# Altium integrated library Diodes - TVS.IntLib: 5379 symbols (part 32 of 122)
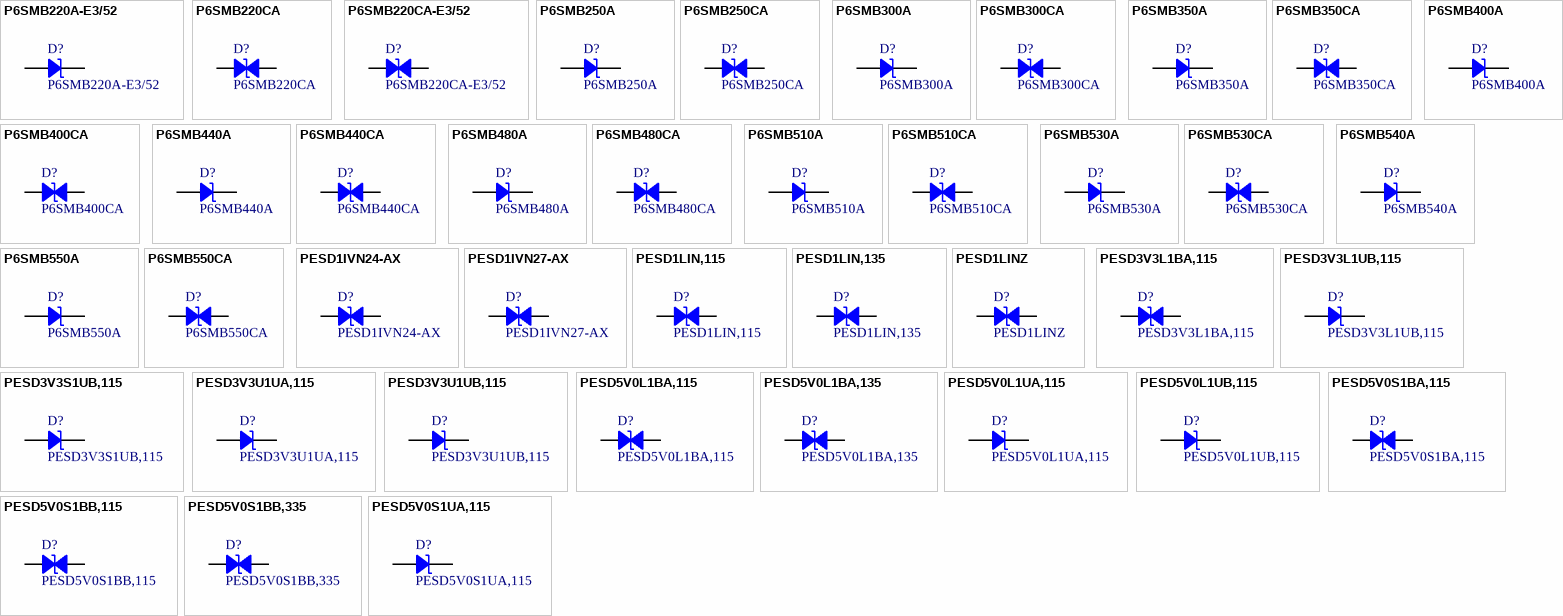
[diagram p165: symbols P6SMB220A-E3/52 to PESD5V0S1UA,115]

## P6SMB480CA
designator D?
TVS DIODE 408V 658V DO214AA; Manufacturer: Littelfuse Inc.; Bidirectional Channels: 1; Current - Peak Pulse (10/1000µs): 900mA; Power Line Protection: No; Power - Peak Pulse: 600W; Type: Zener; Voltage - Breakdown (Min): 456V; Part Number: P6SMB480CA; Applications: General Purpose; ComponentLink1Description: Datasheet; ComponentLink1URL: https://www.littelfuse.com/~/media/electronics/datasheets/tvs_diodes/littelfuse_tvs_diode_p6smb_datasheet.pdf.pdf; ComponentLink2Description: DigiKey Link; ComponentLink2URL: http://digikey.com/product-detail/en/littelfuse-inc/P6SMB480CA/P6SMB480CALFCT-ND/1766707; LastUpdated: 9/2/2020 1:28:16 AM; Lifecycle Status: Active; Minimum Order: 1; Mounting Type: Surface Mount; Operating Temperature: -55°C ~ 150°C (TJ); Package / Case: DO-214AA, SMB; Packaging: TapeAndReel; PartId: 8907; Part Status: Active; Price: 0.24; Series: P6SMB; Supplier 1: DigiKey; Supplier Part Number 1: P6SMB480CALFCT-ND; Supplier Device Package: DO-214AA (SMBJ); Voltage - Clamping (Max) @ Ipp: 658V; Voltage - Reverse Standoff (Typ): 408V
footprint DO214AA SMB
pins: 1, 2

## P6SMB510A
designator D?
TVS DIODE 434V 698V DO214AA; Manufacturer: Bourns Inc.; Current - Peak Pulse (10/1000µs): 900mA; Power Line Protection: No; Power - Peak Pulse: 600W; Type: Zener; Unidirectional Channels: 1; Voltage - Breakdown (Min): 485V; Part Number: P6SMB510A; Applications: General Purpose; ComponentLink1Description: Datasheet; ComponentLink1URL: https://www.bourns.com/docs/Product-Datasheets/P6SMB.pdf; ComponentLink2Description: DigiKey Link; ComponentLink2URL: http://digikey.com/product-detail/en/bourns-inc/P6SMB510A/P6SMB510ABBCT-ND/6708257; LastUpdated: 9/2/2020 1:19:43 AM; Lifecycle Status: Active; Minimum Order: 1; Mounting Type: Surface Mount; Operating Temperature: -55°C ~ 150°C (TJ); Package / Case: DO-214AA, SMB; Packaging: TapeAndReel; PartId: 10601; Part Status: Active; Price: 0.17; Series: -; Supplier 1: DigiKey; Supplier Part Number 1: P6SMB510ABBCT-ND; Supplier Device Package: DO-214AA (SMB); Voltage - Clamping (Max) @ Ipp: 698V; Voltage - Reverse Standoff (Typ): 434V
footprint DO214AA SMB
pins: 1, 2

## P6SMB510CA
designator D?
TVS DIODE 434V 698V DO214AA; Manufacturer: Littelfuse Inc.; Bidirectional Channels: 1; Current - Peak Pulse (10/1000µs): 900mA; Power Line Protection: No; Power - Peak Pulse: 600W; Type: Zener; Voltage - Breakdown (Min): 485V; Part Number: P6SMB510CA; Applications: General Purpose; ComponentLink1Description: Datasheet; ComponentLink1URL: https://www.littelfuse.com/~/media/electronics/datasheets/tvs_diodes/littelfuse_tvs_diode_p6smb_datasheet.pdf.pdf; ComponentLink2Description: DigiKey Link; ComponentLink2URL: http://digikey.com/product-detail/en/littelfuse-inc/P6SMB510CA/P6SMB510CALFCT-ND/1766709; LastUpdated: 9/2/2020 1:28:16 AM; Lifecycle Status: Active; Minimum Order: 1; Mounting Type: Surface Mount; Operating Temperature: -55°C ~ 150°C (TJ); Package / Case: DO-214AA, SMB; Packaging: TapeAndReel; PartId: 8908; Part Status: Active; Price: 0.24; Series: P6SMB; Supplier 1: DigiKey; Supplier Part Number 1: P6SMB510CALFCT-ND; Supplier Device Package: DO-214AA (SMBJ); Voltage - Clamping (Max) @ Ipp: 698V; Voltage - Reverse Standoff (Typ): 434V
footprint DO214AA SMB
pins: 1, 2

## P6SMB530A
designator D?
TVS DIODE 451V 725V DO214AA; Manufacturer: Littelfuse Inc.; Current - Peak Pulse (10/1000µs): 800mA; Power Line Protection: No; Power - Peak Pulse: 600W; Type: Zener; Unidirectional Channels: 1; Voltage - Breakdown (Min): 503.5V; Part Number: P6SMB530A; Applications: General Purpose; ComponentLink1Description: Datasheet; ComponentLink1URL: https://www.littelfuse.com/~/media/electronics/datasheets/tvs_diodes/littelfuse_tvs_diode_p6smb_datasheet.pdf.pdf; ComponentLink2Description: DigiKey Link; ComponentLink2URL: http://digikey.com/product-detail/en/littelfuse-inc/P6SMB530A/P6SMB530ALFCT-ND/2409318; LastUpdated: 9/2/2020 1:19:46 AM; Lifecycle Status: Active; Minimum Order: 1; Mounting Type: Surface Mount; Operating Temperature: -55°C ~ 150°C (TJ); Package / Case: DO-214AA, SMB; Packaging: TapeAndReel; PartId: 10846; Part Status: Active; Price: 0.23; Series: P6SMB; Supplier 1: DigiKey; Supplier Part Number 1: P6SMB530ALFCT-ND; Supplier Device Package: DO-214AA (SMBJ); Voltage - Clamping (Max) @ Ipp: 725V; Voltage - Reverse Standoff (Typ): 451V
footprint DO214AA SMB
pins: 1, 2

## P6SMB530CA
designator D?
TVS DIODE 451V 725V DO214AA; Manufacturer: Littelfuse Inc.; Bidirectional Channels: 1; Current - Peak Pulse (10/1000µs): 800mA; Power Line Protection: No; Power - Peak Pulse: 600W; Type: Zener; Voltage - Breakdown (Min): 503.5V; Part Number: P6SMB530CA; Applications: General Purpose; ComponentLink1Description: Datasheet; ComponentLink1URL: https://www.littelfuse.com/~/media/electronics/datasheets/tvs_diodes/littelfuse_tvs_diode_p6smb_datasheet.pdf.pdf; ComponentLink2Description: DigiKey Link; ComponentLink2URL: http://digikey.com/product-detail/en/littelfuse-inc/P6SMB530CA/P6SMB530CALFCT-ND/2409319; LastUpdated: 9/2/2020 1:28:16 AM; Lifecycle Status: Active; Minimum Order: 1; Mounting Type: Surface Mount; Operating Temperature: -55°C ~ 150°C (TJ); Package / Case: DO-214AA, SMB; Packaging: TapeAndReel; PartId: 8906; Part Status: Active; Price: 0.24; Series: P6SMB; Supplier 1: DigiKey; Supplier Part Number 1: P6SMB530CALFCT-ND; Supplier Device Package: DO-214AA (SMBJ); Voltage - Clamping (Max) @ Ipp: 725V; Voltage - Reverse Standoff (Typ): 451V
footprint DO214AA SMB
pins: 1, 2

## P6SMB540A
designator D?
TVS DIODE 460V 740V DO214AA; Manufacturer: Littelfuse Inc.; Current - Peak Pulse (10/1000µs): 800mA; Power Line Protection: No; Power - Peak Pulse: 600W; Type: Zener; Unidirectional Channels: 1; Voltage - Breakdown (Min): 513V; Part Number: P6SMB540A; Applications: General Purpose; ComponentLink1Description: Datasheet; ComponentLink1URL: https://www.littelfuse.com/~/media/electronics/datasheets/tvs_diodes/littelfuse_tvs_diode_p6smb_datasheet.pdf.pdf; ComponentLink2Description: DigiKey Link; ComponentLink2URL: http://digikey.com/product-detail/en/littelfuse-inc/P6SMB540A/P6SMB540ALFCT-ND/2409320; LastUpdated: 9/2/2020 1:19:45 AM; Lifecycle Status: Active; Minimum Order: 1; Mounting Type: Surface Mount; Operating Temperature: -55°C ~ 150°C (TJ); Package / Case: DO-214AA, SMB; Packaging: TapeAndReel; PartId: 10734; Part Status: Active; Price: 0.23; Series: P6SMB; Supplier 1: DigiKey; Supplier Part Number 1: P6SMB540ALFCT-ND; Supplier Device Package: DO-214AA (SMBJ); Voltage - Clamping (Max) @ Ipp: 740V; Voltage - Reverse Standoff (Typ): 460V
footprint DO214AA SMB
pins: 1, 2

## P6SMB550A
designator D?
TVS DIODE 495V 760V DO214AA; Manufacturer: Bourns Inc.; Current - Peak Pulse (10/1000µs): 800mA; Power Line Protection: No; Power - Peak Pulse: 600W; Type: Zener; Unidirectional Channels: 1; Voltage - Breakdown (Min): 522.5V; Part Number: P6SMB550A; Applications: General Purpose; ComponentLink1Description: Datasheet; ComponentLink1URL: https://www.bourns.com/docs/Product-Datasheets/P6SMB.pdf; ComponentLink2Description: DigiKey Link; ComponentLink2URL: http://digikey.com/product-detail/en/bourns-inc/P6SMB550A/P6SMB550ABBCT-ND/6181613; LastUpdated: 9/2/2020 1:19:43 AM; Lifecycle Status: Active; Minimum Order: 1; Mounting Type: Surface Mount; Operating Temperature: -55°C ~ 150°C (TJ); Package / Case: DO-214AA, SMB; Packaging: TapeAndReel; PartId: 10591; Part Status: Active; Price: 0.19; Series: -; Supplier 1: DigiKey; Supplier Part Number 1: P6SMB550ABBCT-ND; Supplier Device Package: DO-214AA (SMB); Voltage - Clamping (Max) @ Ipp: 760V; Voltage - Reverse Standoff (Typ): 495V
footprint DO214AA SMB
pins: 1, 2

## P6SMB550CA
designator D?
TVS DIODE 468V 760V DO214AA; Manufacturer: Littelfuse Inc.; Bidirectional Channels: 1; Current - Peak Pulse (10/1000µs): 800mA; Power Line Protection: No; Power - Peak Pulse: 600W; Type: Zener; Voltage - Breakdown (Min): 522.5V; Part Number: P6SMB550CA; Applications: General Purpose; ComponentLink1Description: Datasheet; ComponentLink1URL: https://www.littelfuse.com/~/media/electronics/datasheets/tvs_diodes/littelfuse_tvs_diode_p6smb_datasheet.pdf.pdf; ComponentLink2Description: DigiKey Link; ComponentLink2URL: http://digikey.com/product-detail/en/littelfuse-inc/P6SMB550CA/P6SMB550CALFCT-ND/1766713; LastUpdated: 9/2/2020 1:28:16 AM; Lifecycle Status: Active; Minimum Order: 1; Mounting Type: Surface Mount; Operating Temperature: -55°C ~ 150°C (TJ); Package / Case: DO-214AA, SMB; Packaging: TapeAndReel; PartId: 8909; Part Status: Active; Price: 0.24; Series: P6SMB; Supplier 1: DigiKey; Supplier Part Number 1: P6SMB550CALFCT-ND; Supplier Device Package: DO-214AA (SMBJ); Voltage - Clamping (Max) @ Ipp: 760V; Voltage - Reverse Standoff (Typ): 468V
footprint DO214AA SMB
pins: 1, 2

## PESD1IVN24-AX
designator D?
TVS DIODE 24V 42V; Manufacturer: Nexperia USA Inc.; Bidirectional Channels: 1; Capacitance @ Frequency: 14pF @ 1MHz; Current - Peak Pulse (10/1000µs): 3.5A (8/20µs); Power Line Protection: No; Type: Zener; Voltage - Breakdown (Min): 25.5V; Voltage - Reverse Standoff (Typ): 24V (Max); Part Number: PESD1IVN24-AX; Applications: Automotive, CAN; ComponentLink1Description: Datasheet; ComponentLink1URL: https://assets.nexperia.com/documents/data-sheet/PESD1IVN24-A.pdf; ComponentLink2Description: DigiKey Link; ComponentLink2URL: http://digikey.com/product-detail/en/nexperia-usa-inc/PESD1IVN24-AX/1727-7620-1-ND/8269079; LastUpdated: 9/2/2020 1:28:29 AM; Lifecycle Status: Active; Minimum Order: 1; Mounting Type: Surface Mount; Operating Temperature: -55°C ~ 150°C (TA); Package / Case: SC-76, SOD-323; Packaging: TapeAndReel; PartId: 9975; Part Status: Active; Price: 0.08; Series: Automotive, AEC-Q101; Supplier 1: DigiKey; Supplier Part Number 1: 1727-7620-1-ND; Supplier Device Package: SOD-323; Voltage - Clamping (Max) @ Ipp: 42V
footprint SOD323
pins: 1, 2

## PESD1IVN27-AX
designator D?
TVS DIODE 27V 45V SOD323; Manufacturer: Nexperia USA Inc.; Bidirectional Channels: 1; Capacitance @ Frequency: 14pF @ 1MHz; Current - Peak Pulse (10/1000µs): 3A (8/20µs); Power Line Protection: No; Type: Zener; Voltage - Breakdown (Min): 28V; Voltage - Reverse Standoff (Typ): 27V (Max); Part Number: PESD1IVN27-AX; Applications: Automotive, CAN; ComponentLink1Description: Datasheet; ComponentLink1URL: https://assets.nexperia.com/documents/data-sheet/PESD1IVN27-A.pdf; ComponentLink2Description: DigiKey Link; ComponentLink2URL: http://digikey.com/product-detail/en/nexperia-usa-inc/PESD1IVN27-AX/1727-7621-1-ND/8269080; LastUpdated: 9/2/2020 1:28:29 AM; Lifecycle Status: Active; Minimum Order: 1; Mounting Type: Surface Mount; Operating Temperature: -55°C ~ 150°C (TA); Package / Case: SC-76, SOD-323; Packaging: TapeAndReel; PartId: 9974; Part Status: Active; Price: 0.08; Series: Automotive, AEC-Q101; Supplier 1: DigiKey; Supplier Part Number 1: 1727-7621-1-ND; Supplier Device Package: SOD-323; Voltage - Clamping (Max) @ Ipp: 45V
footprint SOD323
pins: 1, 2

## PESD1LIN,115
designator D?
TVS DIODE 15V/24V 44V/70V SOD323; Manufacturer: Nexperia USA Inc.; Bidirectional Channels: 1; Capacitance @ Frequency: 13pF @ 1MHz; Current - Peak Pulse (10/1000µs): 3A (8/20µs); Power Line Protection: No; Power - Peak Pulse: 160W; Type: Zener; Voltage - Breakdown (Min): 17.1V; Voltage - Clamping (Max) @ Ipp: 44V, 70V; Voltage - Reverse Standoff (Typ): 15V (Max), 24V (Max); Part Number: PESD1LIN,115; Applications: Automotive; ComponentLink1Description: Datasheet; ComponentLink1URL: https://assets.nexperia.com/documents/data-sheet/PESD1LIN.pdf; ComponentLink2Description: DigiKey Link; ComponentLink2URL: http://digikey.com/product-detail/en/nexperia-usa-inc/PESD1LIN115/1727-3818-1-ND/1530823; LastUpdated: 9/2/2020 1:28:29 AM; Lifecycle Status: Active; Minimum Order: 1; Mounting Type: Surface Mount; Operating Temperature: -65°C ~ 150°C (TA); Package / Case: SC-76, SOD-323; Packaging: TapeAndReel; PartId: 9995; Part Status: Active; Price: 0.10; Series: Automotive, AEC-Q101; Supplier 1: DigiKey; Supplier Part Number 1: 1727-3818-1-ND; Supplier Device Package: SOD-323
footprint SOD323
pins: 1, 2

## PESD1LIN,135
designator D?
TVS DIODE 15V/24V 44V/70V SOD323; Manufacturer: Nexperia USA Inc.; Bidirectional Channels: 1; Capacitance @ Frequency: 13pF @ 1MHz; Current - Peak Pulse (10/1000µs): 3A (8/20µs); Power Line Protection: No; Power - Peak Pulse: 160W; Type: Zener; Voltage - Breakdown (Min): 17.1V; Voltage - Clamping (Max) @ Ipp: 44V, 70V; Voltage - Reverse Standoff (Typ): 15V (Max), 24V (Max); Part Number: PESD1LIN,135; Applications: Automotive; ComponentLink1Description: Datasheet; ComponentLink1URL: https://assets.nexperia.com/documents/data-sheet/PESD1LIN.pdf; ComponentLink2Description: DigiKey Link; ComponentLink2URL: http://digikey.com/product-detail/en/nexperia-usa-inc/PESD1LIN135/1727-1225-1-ND/4333340; LastUpdated: 9/2/2020 1:28:29 AM; Lifecycle Status: Active; Minimum Order: 1; Mounting Type: Surface Mount; Operating Temperature: -65°C ~ 150°C (TA); Package / Case: SC-76, SOD-323; Packaging: TapeAndReel; PartId: 9986; Part Status: Active; Price: 0.09; Series: Automotive, AEC-Q101; Supplier 1: DigiKey; Supplier Part Number 1: 1727-1225-1-ND; Supplier Device Package: SOD-323
footprint SOD323
pins: 1, 2

## PESD1LINZ
designator D?
TVS DIODE 15V/24V 44V/70V SOD323; Manufacturer: Nexperia USA Inc.; Bidirectional Channels: 1; Capacitance @ Frequency: 13pF @ 1MHz; Current - Peak Pulse (10/1000µs): 3A (8/20µs); Power Line Protection: No; Power - Peak Pulse: 160W; Type: Zener; Voltage - Breakdown (Min): 17.1V; Voltage - Clamping (Max) @ Ipp: 44V, 70V; Voltage - Reverse Standoff (Typ): 15V (Max), 24V (Max); Part Number: PESD1LINZ; Applications: Automotive; ComponentLink1Description: Datasheet; ComponentLink1URL: https://assets.nexperia.com/documents/data-sheet/PESD1LIN.pdf; ComponentLink2Description: DigiKey Link; ComponentLink2URL: http://digikey.com/product-detail/en/nexperia-usa-inc/PESD1LINZ/1727-8531-1-ND/10061268; LastUpdated: 9/2/2020 1:28:29 AM; Lifecycle Status: Active; Minimum Order: 1; Mounting Type: Surface Mount; Operating Temperature: 150°C (TJ); Package / Case: SC-76, SOD-323; Packaging: TapeAndReel; PartId: 9957; Part Status: Active; Price: 0.10; Series: Automotive, AEC-Q101; Supplier 1: DigiKey; Supplier Part Number 1: 1727-8531-1-ND; Supplier Device Package: SOD-323
footprint SOD323
pins: 1, 2

## PESD3V3L1BA,115
designator D?
TVS DIODE 3.3V 26V SOD323; Manufacturer: Nexperia USA Inc.; Bidirectional Channels: 1; Capacitance @ Frequency: 101pF @ 1MHz; Current - Peak Pulse (10/1000µs): 18A (8/20µs); Power Line Protection: No; Power - Peak Pulse: 500W; Type: Zener; Voltage - Breakdown (Min): 5.8V; Voltage - Reverse Standoff (Typ): 3.3V (Max); Part Number: PESD3V3L1BA,115; Applications: General Purpose; ComponentLink1Description: Datasheet; ComponentLink1URL: https://assets.nexperia.com/documents/data-sheet/PESDXL1BA_SER.pdf; ComponentLink2Description: DigiKey Link; ComponentLink2URL: http://digikey.com/product-detail/en/nexperia-usa-inc/PESD3V3L1BA115/1727-3825-1-ND/1530830; LastUpdated: 9/2/2020 1:28:29 AM; Lifecycle Status: Active; Minimum Order: 1; Mounting Type: Surface Mount; Operating Temperature: -65°C ~ 150°C (TA); Package / Case: SC-76, SOD-323; Packaging: TapeAndReel; PartId: 9994; Part Status: Active; Price: 0.11; Series: -; Supplier 1: DigiKey; Supplier Part Number 1: 1727-3825-1-ND; Supplier Device Package: SOD-323; Voltage - Clamping (Max) @ Ipp: 26V
footprint SOD323
pins: 1, 2

## PESD3V3L1UB,115
designator D?
TVS DIODE 3.3V 11V SOD523; Manufacturer: Nexperia USA Inc.; Capacitance @ Frequency: 34pF @ 1MHz; Current - Peak Pulse (10/1000µs): 4.5A (8/20µs); Power Line Protection: No; Power - Peak Pulse: 45W; Type: Zener; Unidirectional Channels: 1; Voltage - Breakdown (Min): 5.3V; Voltage - Reverse Standoff (Typ): 3.3V (Max); Part Number: PESD3V3L1UB,115; Applications: Automotive; ComponentLink1Description: Datasheet; ComponentLink1URL: https://assets.nexperia.com/documents/data-sheet/PESD3V3L1UA_UB_UL.pdf; ComponentLink2Description: DigiKey Link; ComponentLink2URL: http://digikey.com/product-detail/en/nexperia-usa-inc/PESD3V3L1UB115/1727-5418-1-ND/2676904; LastUpdated: 9/2/2020 1:28:24 AM; Lifecycle Status: Active; Minimum Order: 1; Mounting Type: Surface Mount; Operating Temperature: -55°C ~ 150°C (TA); Package / Case: SC-79, SOD-523; Packaging: TapeAndReel; PartId: 9794; Part Status: Active; Price: 0.09; Series: Automotive, AEC-Q101; Supplier 1: DigiKey; Supplier Part Number 1: 1727-5418-1-ND; Supplier Device Package: SOD-523; Voltage - Clamping (Max) @ Ipp: 11V
footprint SOD523F
pins: 1, 2

## PESD3V3S1UB,115
designator D?
TVS DIODE 3.3V 20V SOD523; Manufacturer: Nexperia USA Inc.; Capacitance @ Frequency: 207pF @ 1MHz; Current - Peak Pulse (10/1000µs): 18A (8/20µs); Power Line Protection: No; Power - Peak Pulse: 330W; Type: Zener; Unidirectional Channels: 1; Voltage - Breakdown (Min): 5.2V; Voltage - Reverse Standoff (Typ): 3.3V (Max); Part Number: PESD3V3S1UB,115; Applications: General Purpose; ComponentLink1Description: Datasheet; ComponentLink1URL: https://assets.nexperia.com/documents/data-sheet/PESDXS1UB_SERIES.pdf; ComponentLink2Description: DigiKey Link; ComponentLink2URL: http://digikey.com/product-detail/en/nexperia-usa-inc/PESD3V3S1UB115/1727-3829-1-ND/1530834; LastUpdated: 9/2/2020 1:28:24 AM; Lifecycle Status: Active; Minimum Order: 1; Mounting Type: Surface Mount; Operating Temperature: -65°C ~ 150°C (TA); Package / Case: SC-79, SOD-523; Packaging: TapeAndReel; PartId: 9768; Part Status: Active; Price: 0.09; Series: -; Supplier 1: DigiKey; Supplier Part Number 1: 1727-3829-1-ND; Supplier Device Package: SOD-523; Voltage - Clamping (Max) @ Ipp: 20V
footprint SOD523F
pins: 1, 2

## PESD3V3U1UA,115
designator D?
TVS DIODE 3.3V SOD323; Manufacturer: Nexperia USA Inc.; Capacitance @ Frequency: 2.6pF @ 1MHz; Power Line Protection: No; Type: Zener; Unidirectional Channels: 1; Voltage - Breakdown (Min): 4.5V; Voltage - Reverse Standoff (Typ): 3.3V (Max); Part Number: PESD3V3U1UA,115; Applications: Automotive; ComponentLink1Description: Datasheet; ComponentLink1URL: https://assets.nexperia.com/documents/data-sheet/PESD3V3U1UA_UB_UL.pdf; ComponentLink2Description: DigiKey Link; ComponentLink2URL: http://digikey.com/product-detail/en/nexperia-usa-inc/PESD3V3U1UA115/1727-4152-1-ND/1993004; LastUpdated: 9/2/2020 1:28:27 AM; Lifecycle Status: Active; Minimum Order: 1; Mounting Type: Surface Mount; Operating Temperature: -55°C ~ 150°C (TA); Package / Case: SC-76, SOD-323; Packaging: TapeAndReel; PartId: 9857; Part Status: Active; Price: 0.08; Series: Automotive, AEC-Q101; Supplier 1: DigiKey; Supplier Part Number 1: 1727-4152-1-ND; Supplier Device Package: SOD-323
footprint SOD323
pins: 1, 2

## PESD3V3U1UB,115
designator D?
TVS DIODE 3.3V SOD523; Manufacturer: Nexperia USA Inc.; Capacitance @ Frequency: 2.6pF @ 1MHz; Power Line Protection: No; Type: Zener; Unidirectional Channels: 1; Voltage - Breakdown (Min): 4.5V; Voltage - Reverse Standoff (Typ): 3.3V (Max); Part Number: PESD3V3U1UB,115; Applications: Automotive; ComponentLink1Description: Datasheet; ComponentLink1URL: https://assets.nexperia.com/documents/data-sheet/PESD3V3U1UA_UB_UL.pdf; ComponentLink2Description: DigiKey Link; ComponentLink2URL: http://digikey.com/product-detail/en/nexperia-usa-inc/PESD3V3U1UB115/1727-4153-1-ND/1993005; LastUpdated: 9/2/2020 1:28:24 AM; Lifecycle Status: Active; Minimum Order: 1; Mounting Type: Surface Mount; Operating Temperature: -55°C ~ 150°C (TA); Package / Case: SC-79, SOD-523; Packaging: TapeAndReel; PartId: 9773; Part Status: Active; Price: 0.08; Series: Automotive, AEC-Q101; Supplier 1: DigiKey; Supplier Part Number 1: 1727-4153-1-ND; Supplier Device Package: SOD-523
footprint SOD523F
pins: 1, 2

## PESD5V0L1BA,115
designator D?
TVS DIODE 5V 33V SOD323; Manufacturer: Nexperia USA Inc.; Bidirectional Channels: 1; Capacitance @ Frequency: 75pF @ 1MHz; Current - Peak Pulse (10/1000µs): 15A (8/20µs); Power Line Protection: No; Power - Peak Pulse: 500W; Type: Zener; Voltage - Breakdown (Min): 7V; Voltage - Reverse Standoff (Typ): 5V (Max); Part Number: PESD5V0L1BA,115; Applications: General Purpose; ComponentLink1Description: Datasheet; ComponentLink1URL: https://assets.nexperia.com/documents/data-sheet/PESDXL1BA_SER.pdf; ComponentLink2Description: DigiKey Link; ComponentLink2URL: http://digikey.com/product-detail/en/nexperia-usa-inc/PESD5V0L1BA115/1727-3833-1-ND/1530839; LastUpdated: 9/2/2020 1:28:29 AM; Lifecycle Status: Active; Minimum Order: 1; Mounting Type: Surface Mount; Operating Temperature: 150°C (TJ); Package / Case: SC-76, SOD-323; Packaging: TapeAndReel; PartId: 9992; Part Status: Active; Price: 0.11; Series: -; Supplier 1: DigiKey; Supplier Part Number 1: 1727-3833-1-ND; Supplier Device Package: SOD-323; Voltage - Clamping (Max) @ Ipp: 33V
footprint SOD323
pins: 1, 2

## PESD5V0L1BA,135
designator D?
TVS DIODE 5V 33V SOD323; Manufacturer: Nexperia USA Inc.; Bidirectional Channels: 1; Capacitance @ Frequency: 75pF @ 1MHz; Current - Peak Pulse (10/1000µs): 15A (8/20µs); Power Line Protection: No; Power - Peak Pulse: 500W; Type: Zener; Voltage - Breakdown (Min): 7V; Voltage - Reverse Standoff (Typ): 5V (Max); Part Number: PESD5V0L1BA,135; Applications: General Purpose; ComponentLink1Description: Datasheet; ComponentLink1URL: https://assets.nexperia.com/documents/data-sheet/PESDXL1BA_SER.pdf; ComponentLink2Description: DigiKey Link; ComponentLink2URL: http://digikey.com/product-detail/en/nexperia-usa-inc/PESD5V0L1BA135/1727-1226-1-ND/4333341; LastUpdated: 9/2/2020 1:28:29 AM; Lifecycle Status: Active; Minimum Order: 1; Mounting Type: Surface Mount; Operating Temperature: 150°C (TJ); Package / Case: SC-76, SOD-323; Packaging: TapeAndReel; PartId: 9927; Part Status: Active; Price: 0.09; Series: -; Supplier 1: DigiKey; Supplier Part Number 1: 1727-1226-1-ND; Supplier Device Package: SOD-323; Voltage - Clamping (Max) @ Ipp: 33V
footprint SOD323
pins: 1, 2

## PESD5V0L1UA,115
designator D?
TVS DIODE 5V 12V SOD323; Manufacturer: Nexperia USA Inc.; Capacitance @ Frequency: 25pF @ 1MHz; Current - Peak Pulse (10/1000µs): 3.5A (8/20µs); Power Line Protection: No; Power - Peak Pulse: 42W; Type: Zener; Unidirectional Channels: 1; Voltage - Breakdown (Min): 6.4V; Voltage - Reverse Standoff (Typ): 5V (Max); Part Number: PESD5V0L1UA,115; Applications: Automotive; ComponentLink1Description: Datasheet; ComponentLink1URL: https://assets.nexperia.com/documents/data-sheet/PESD5V0L1UA_UB_UL.pdf; ComponentLink2Description: DigiKey Link; ComponentLink2URL: http://digikey.com/product-detail/en/nexperia-usa-inc/PESD5V0L1UA115/1727-5380-1-ND/2676862; LastUpdated: 9/2/2020 1:28:27 AM; Lifecycle Status: Active; Minimum Order: 1; Mounting Type: Surface Mount; Operating Temperature: -55°C ~ 150°C (TA); Package / Case: SC-76, SOD-323; Packaging: TapeAndReel; PartId: 9882; Part Status: Active; Price: 0.06; Series: Automotive, AEC-Q101; Supplier 1: DigiKey; Supplier Part Number 1: 1727-5380-1-ND; Supplier Device Package: SOD-323; Voltage - Clamping (Max) @ Ipp: 12V
footprint SOD323
pins: 1, 2

## PESD5V0L1UB,115
designator D?
TVS DIODE 5V 12V SOD523; Manufacturer: Nexperia USA Inc.; Capacitance @ Frequency: 25pF @ 1MHz; Current - Peak Pulse (10/1000µs): 3.5A (8/20µs); Power Line Protection: No; Power - Peak Pulse: 42W; Type: Zener; Unidirectional Channels: 1; Voltage - Breakdown (Min): 6.4V; Voltage - Reverse Standoff (Typ): 5V (Max); Part Number: PESD5V0L1UB,115; Applications: Automotive; ComponentLink1Description: Datasheet; ComponentLink1URL: https://assets.nexperia.com/documents/data-sheet/PESD5V0L1UA_UB_UL.pdf; ComponentLink2Description: DigiKey Link; ComponentLink2URL: http://digikey.com/product-detail/en/nexperia-usa-inc/PESD5V0L1UB115/1727-4192-1-ND/2092311; LastUpdated: 9/2/2020 1:28:24 AM; Lifecycle Status: Active; Minimum Order: 1; Mounting Type: Surface Mount; Operating Temperature: -55°C ~ 150°C (TA); Package / Case: SC-79, SOD-523; Packaging: TapeAndReel; PartId: 9793; Part Status: Active; Price: 0.09; Series: Automotive, AEC-Q101; Supplier 1: DigiKey; Supplier Part Number 1: 1727-4192-1-ND; Supplier Device Package: SOD-523; Voltage - Clamping (Max) @ Ipp: 12V
footprint SOD523F
pins: 1, 2

## PESD5V0S1BA,115
designator D?
TVS DIODE 5V 14V SOD323; Manufacturer: Nexperia USA Inc.; Bidirectional Channels: 1; Capacitance @ Frequency: 35pF @ 1MHz; Current - Peak Pulse (10/1000µs): 12A (8/20µs); Power Line Protection: No; Power - Peak Pulse: 130W; Type: Zener; Voltage - Breakdown (Min): 5.5V; Voltage - Reverse Standoff (Typ): 5V (Max); Part Number: PESD5V0S1BA,115; Applications: General Purpose; ComponentLink1Description: Datasheet; ComponentLink1URL: https://assets.nexperia.com/documents/data-sheet/PESD5V0S1BA_BB_BL.pdf; ComponentLink2Description: DigiKey Link; ComponentLink2URL: http://digikey.com/product-detail/en/nexperia-usa-inc/PESD5V0S1BA115/1727-3837-1-ND/1530843; LastUpdated: 9/2/2020 1:28:29 AM; Lifecycle Status: Active; Minimum Order: 1; Mounting Type: Surface Mount; Operating Temperature: -65°C ~ 150°C (TA); Package / Case: SC-76, SOD-323; Packaging: TapeAndReel; PartId: 9996; Part Status: Active; Price: 0.10; Series: -; Supplier 1: DigiKey; Supplier Part Number 1: 1727-3837-1-ND; Supplier Device Package: SOD-323; Voltage - Clamping (Max) @ Ipp: 14V
footprint SOD323
pins: 1, 2

## PESD5V0S1BB,115
designator D?
TVS DIODE 5V 14V SOD523; Manufacturer: Nexperia USA Inc.; Bidirectional Channels: 1; Capacitance @ Frequency: 35pF @ 1MHz; Current - Peak Pulse (10/1000µs): 12A (8/20µs); Power Line Protection: No; Power - Peak Pulse: 130W; Type: Zener; Voltage - Breakdown (Min): 5.5V; Voltage - Reverse Standoff (Typ): 5V (Max); Part Number: PESD5V0S1BB,115; Applications: General Purpose; ComponentLink1Description: Datasheet; ComponentLink1URL: https://assets.nexperia.com/documents/data-sheet/PESD5V0S1BA_BB_BL.pdf; ComponentLink2Description: DigiKey Link; ComponentLink2URL: http://digikey.com/product-detail/en/nexperia-usa-inc/PESD5V0S1BB115/1727-3838-1-ND/1530844; LastUpdated: 9/2/2020 1:28:25 AM; Lifecycle Status: Active; Minimum Order: 1; Mounting Type: Surface Mount; Operating Temperature: -65°C ~ 150°C (TA); Package / Case: SC-79, SOD-523; Packaging: TapeAndReel; PartId: 9820; Part Status: Active; Price: 0.07; Series: -; Supplier 1: DigiKey; Supplier Part Number 1: 1727-3838-1-ND; Supplier Device Package: SOD-523; Voltage - Clamping (Max) @ Ipp: 14V
footprint SOD523F
pins: 1, 2

## PESD5V0S1BB,335
designator D?
TVS DIODE 5V 14V SOD523; Manufacturer: Nexperia USA Inc.; Bidirectional Channels: 1; Capacitance @ Frequency: 35pF @ 1MHz; Current - Peak Pulse (10/1000µs): 12A (8/20µs); Power Line Protection: No; Power - Peak Pulse: 130W; Type: Zener; Voltage - Breakdown (Min): 5.5V; Voltage - Reverse Standoff (Typ): 5V (Max); Part Number: PESD5V0S1BB,335; Applications: General Purpose; ComponentLink1Description: Datasheet; ComponentLink1URL: https://assets.nexperia.com/documents/data-sheet/PESD5V0S1BA_BB_BL.pdf; ComponentLink2Description: DigiKey Link; ComponentLink2URL: http://digikey.com/product-detail/en/nexperia-usa-inc/PESD5V0S1BB335/1727-5799-1-ND/2698191; LastUpdated: 9/2/2020 1:28:25 AM; Lifecycle Status: Active; Minimum Order: 1; Mounting Type: Surface Mount; Operating Temperature: -65°C ~ 150°C (TA); Package / Case: SC-79, SOD-523; Packaging: TapeAndReel; PartId: 9821; Part Status: Active; Price: 0.05; Series: -; Supplier 1: DigiKey; Supplier Part Number 1: 1727-5799-1-ND; Supplier Device Package: SOD-523; Voltage - Clamping (Max) @ Ipp: 14V
footprint SOD523F
pins: 1, 2

## PESD5V0S1UA,115
designator D?
TVS DIODE 5V 19V SOD323; Manufacturer: Nexperia USA Inc.; Capacitance @ Frequency: 480pF @ 1MHz; Current - Peak Pulse (10/1000µs): 47A (8/20µs); Power Line Protection: No; Power - Peak Pulse: 890W; Type: Zener; Unidirectional Channels: 1; Voltage - Breakdown (Min): 6.2V; Voltage - Reverse Standoff (Typ): 5V (Max); Part Number: PESD5V0S1UA,115; Applications: Automotive; ComponentLink1Description: Datasheet; ComponentLink1URL: https://assets.nexperia.com/documents/data-sheet/PESD5V0S1UA_PESD12VS1UA.pdf; ComponentLink2Description: DigiKey Link; ComponentLink2URL: http://digikey.com/product-detail/en/nexperia-usa-inc/PESD5V0S1UA115/1727-5801-1-ND/2697465; LastUpdated: 9/2/2020 1:28:27 AM; Lifecycle Status: Active; Minimum Order: 1; Mounting Type: Surface Mount; Operating Temperature: -55°C ~ 150°C (TA); Package / Case: SC-76, SOD-323; Packaging: TapeAndReel; PartId: 9878; Part Status: Active; Price: 0.08; Series: Automotive, AEC-Q101; Supplier 1: DigiKey; Supplier Part Number 1: 1727-5801-1-ND; Supplier Device Package: SOD-323; Voltage - Clamping (Max) @ Ipp: 19V
footprint SOD323
pins: 1, 2

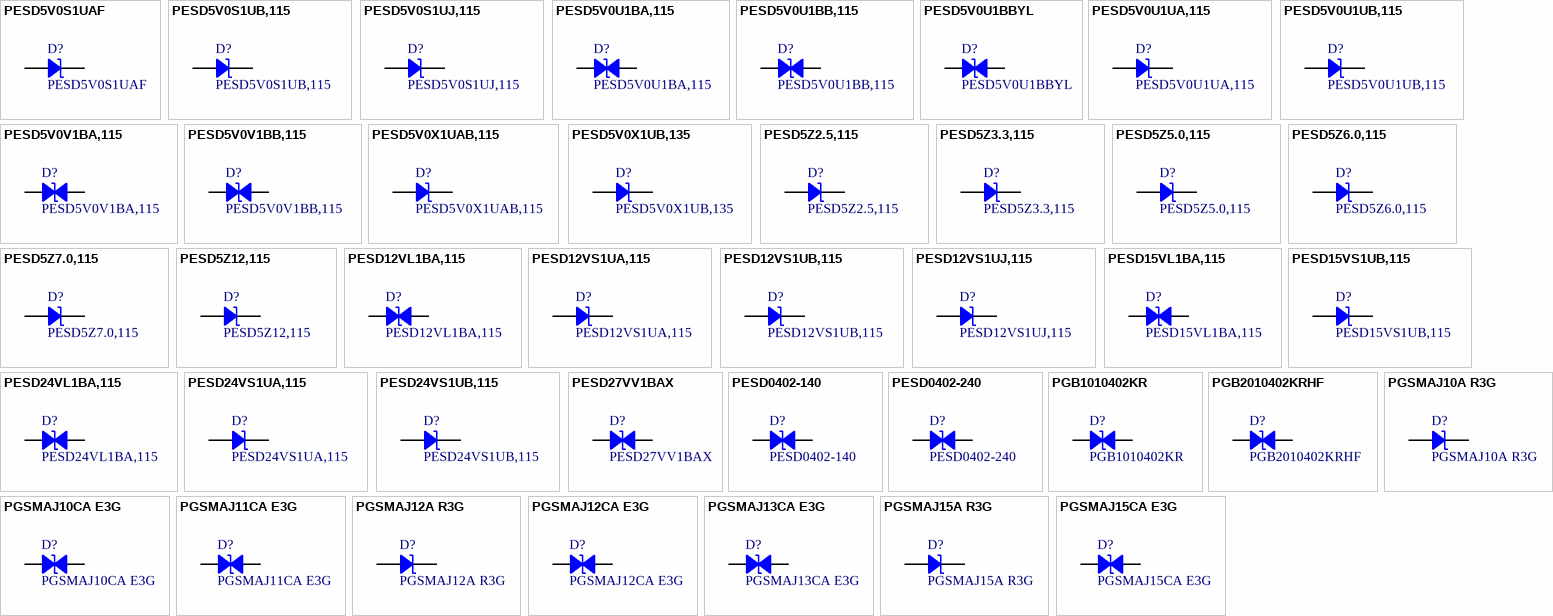
[diagram p35: symbols PESD5V0S1UAF to PGSMAJ15CA E3G]

## PESD5V0S1UAF
designator D?
TVS DIODE 5V 19V SOD323; Manufacturer: Nexperia USA Inc.; Capacitance @ Frequency: 480pF @ 1MHz; Current - Peak Pulse (10/1000µs): 47A (8/20µs); Power Line Protection: No; Power - Peak Pulse: 890W; Type: Zener; Unidirectional Channels: 1; Voltage - Breakdown (Min): 6.2V; Voltage - Reverse Standoff (Typ): 5V (Max); Part Number: PESD5V0S1UAF; Applications: Automotive; ComponentLink1Description: Datasheet; ComponentLink1URL: https://assets.nexperia.com/documents/data-sheet/PESD5V0S1UA_PESD12VS1UA.pdf; ComponentLink2Description: DigiKey Link; ComponentLink2URL: http://digikey.com/product-detail/en/nexperia-usa-inc/PESD5V0S1UAF/1727-2750-1-ND/6576215; LastUpdated: 9/2/2020 1:28:27 AM; Lifecycle Status: Active; Minimum Order: 1; Mounting Type: Surface Mount; Operating Temperature: -55°C ~ 150°C (TA); Package / Case: SC-76, SOD-323; Packaging: TapeAndReel; PartId: 9871; Part Status: Active; Price: 0.06; Series: Automotive, AEC-Q101; Supplier 1: DigiKey; Supplier Part Number 1: 1727-2750-1-ND; Supplier Device Package: SOD-323; Voltage - Clamping (Max) @ Ipp: 19V
footprint SOD323
pins: 1, 2

## PESD5V0S1UB,115
designator D?
TVS DIODE 5V 20V SOD523; Manufacturer: Nexperia USA Inc.; Capacitance @ Frequency: 152pF @ 1MHz; Current - Peak Pulse (10/1000µs): 15A (8/20µs); Power Line Protection: No; Power - Peak Pulse: 260W; Type: Zener; Unidirectional Channels: 1; Voltage - Breakdown (Min): 6.4V; Voltage - Reverse Standoff (Typ): 5V (Max); Part Number: PESD5V0S1UB,115; Applications: General Purpose; ComponentLink1Description: Datasheet; ComponentLink1URL: https://assets.nexperia.com/documents/data-sheet/PESDXS1UB_SERIES.pdf; ComponentLink2Description: DigiKey Link; ComponentLink2URL: http://digikey.com/product-detail/en/nexperia-usa-inc/PESD5V0S1UB115/1727-3839-1-ND/1530845; LastUpdated: 9/2/2020 1:28:24 AM; Lifecycle Status: Active; Minimum Order: 1; Mounting Type: Surface Mount; Operating Temperature: -65°C ~ 150°C (TA); Package / Case: SC-79, SOD-523; Packaging: TapeAndReel; PartId: 9746; Part Status: Active; Price: 0.09; Series: -; Supplier 1: DigiKey; Supplier Part Number 1: 1727-3839-1-ND; Supplier Device Package: SOD-523; Voltage - Clamping (Max) @ Ipp: 20V
footprint SOD523F
pins: 1, 2

## PESD5V0S1UJ,115
designator D?
TVS DIODE 5V 19V SOD323F; Manufacturer: Nexperia USA Inc.; Capacitance @ Frequency: 480pF @ 1MHz; Current - Peak Pulse (10/1000µs): 47A (8/20µs); Power Line Protection: No; Power - Peak Pulse: 890W; Type: Zener; Unidirectional Channels: 1; Voltage - Breakdown (Min): 6.2V; Voltage - Reverse Standoff (Typ): 5V (Max); Part Number: PESD5V0S1UJ,115; Applications: Automotive; ComponentLink1Description: Datasheet; ComponentLink1URL: https://assets.nexperia.com/documents/data-sheet/PESD5V0S1UJ_PESD12VS1UJ.pdf; ComponentLink2Description: DigiKey Link; ComponentLink2URL: http://digikey.com/product-detail/en/nexperia-usa-inc/PESD5V0S1UJ115/1727-5802-1-ND/2697512; LastUpdated: 9/2/2020 1:28:42 AM; Lifecycle Status: Active; Minimum Order: 1; Mounting Type: Surface Mount; Operating Temperature: -55°C ~ 150°C (TA); Package / Case: SC-90, SOD-323F; Packaging: TapeAndReel; PartId: 10357; Part Status: Active; Price: 0.08; Series: Automotive, AEC-Q101; Supplier 1: DigiKey; Supplier Part Number 1: 1727-5802-1-ND; Supplier Device Package: SOD-323F; Voltage - Clamping (Max) @ Ipp: 19V
footprint SOD323F
pins: 1, 2

## PESD5V0U1BA,115
designator D?
TVS DIODE 5V SOD323; Manufacturer: Nexperia USA Inc.; Bidirectional Channels: 1; Capacitance @ Frequency: 2.9pF @ 1MHz; Power Line Protection: No; Type: Zener; Voltage - Breakdown (Min): 5.5V; Voltage - Reverse Standoff (Typ): 5V (Max); Part Number: PESD5V0U1BA,115; Applications: General Purpose; ComponentLink1Description: Datasheet; ComponentLink1URL: https://assets.nexperia.com/documents/data-sheet/PESD5V0U1BA_BB_BL.pdf; ComponentLink2Description: DigiKey Link; ComponentLink2URL: http://digikey.com/product-detail/en/nexperia-usa-inc/PESD5V0U1BA115/1727-3934-1-ND/1692988; LastUpdated: 9/2/2020 1:28:29 AM; Lifecycle Status: Active; Minimum Order: 1; Mounting Type: Surface Mount; Operating Temperature: -65°C ~ 150°C (TA); Package / Case: SC-76, SOD-323; Packaging: TapeAndReel; PartId: 9937; Part Status: Active; Price: 0.09; Series: -; Supplier 1: DigiKey; Supplier Part Number 1: 1727-3934-1-ND; Supplier Device Package: SOD-323
footprint SOD323
pins: 1, 2

## PESD5V0U1BB,115
designator D?
TVS DIODE 5V SOD523; Manufacturer: Nexperia USA Inc.; Bidirectional Channels: 1; Capacitance @ Frequency: 2.9pF @ 1MHz; Power Line Protection: No; Type: Zener; Voltage - Breakdown (Min): 5.5V; Voltage - Reverse Standoff (Typ): 5V (Max); Part Number: PESD5V0U1BB,115; Applications: General Purpose; ComponentLink1Description: Datasheet; ComponentLink1URL: https://assets.nexperia.com/documents/data-sheet/PESD5V0U1BA_BB_BL.pdf; ComponentLink2Description: DigiKey Link; ComponentLink2URL: http://digikey.com/product-detail/en/nexperia-usa-inc/PESD5V0U1BB115/1727-3935-1-ND/1692989; LastUpdated: 9/2/2020 1:28:25 AM; Lifecycle Status: Active; Minimum Order: 1; Mounting Type: Surface Mount; Operating Temperature: -65°C ~ 150°C (TA); Package / Case: SC-79, SOD-523; Packaging: TapeAndReel; PartId: 9829; Part Status: Active; Price: 0.15; Series: -; Supplier 1: DigiKey; Supplier Part Number 1: 1727-3935-1-ND; Supplier Device Package: SOD-523
footprint SOD523F
pins: 1, 2

## PESD5V0U1BBYL
designator D?
TVS DIODE 5V SOD523; Manufacturer: Nexperia USA Inc.; Bidirectional Channels: 1; Capacitance @ Frequency: 2.9pF @ 1MHz; Power Line Protection: No; Type: Zener; Voltage - Breakdown (Min): 5.5V; Voltage - Reverse Standoff (Typ): 5V (Max); Part Number: PESD5V0U1BBYL; Applications: General Purpose; ComponentLink1Description: Datasheet; ComponentLink1URL: https://assets.nexperia.com/documents/data-sheet/PESD5V0U1BA_BB_BL.pdf; ComponentLink2Description: DigiKey Link; ComponentLink2URL: http://digikey.com/product-detail/en/nexperia-usa-inc/PESD5V0U1BBYL/1727-8532-1-ND/10061269; LastUpdated: 9/2/2020 1:28:25 AM; Lifecycle Status: Active; Minimum Order: 1; Mounting Type: Surface Mount; Operating Temperature: 150°C (TJ); Package / Case: SC-79, SOD-523; Packaging: TapeAndReel; PartId: 9817; Part Status: Active; Price: 0.08; Series: -; Supplier 1: DigiKey; Supplier Part Number 1: 1727-8532-1-ND; Supplier Device Package: SOD-523
footprint SOD523F
pins: 1, 2

## PESD5V0U1UA,115
designator D?
TVS DIODE 5V SOD323; Manufacturer: Nexperia USA Inc.; Capacitance @ Frequency: 2pF @ 1MHz; Power Line Protection: No; Type: Zener; Unidirectional Channels: 1; Voltage - Breakdown (Min): 5.8V; Voltage - Reverse Standoff (Typ): 5V (Max); Part Number: PESD5V0U1UA,115; Applications: Automotive; ComponentLink1Description: Datasheet; ComponentLink1URL: https://assets.nexperia.com/documents/data-sheet/PESD5V0U1UA_UB_UL.pdf; ComponentLink2Description: DigiKey Link; ComponentLink2URL: http://digikey.com/product-detail/en/nexperia-usa-inc/PESD5V0U1UA115/1727-4155-1-ND/1993007; LastUpdated: 9/2/2020 1:28:27 AM; Lifecycle Status: Active; Minimum Order: 1; Mounting Type: Surface Mount; Operating Temperature: -55°C ~ 150°C (TA); Package / Case: SC-76, SOD-323; Packaging: TapeAndReel; PartId: 9900; Part Status: Active; Price: 0.08; Series: Automotive, AEC-Q101; Supplier 1: DigiKey; Supplier Part Number 1: 1727-4155-1-ND; Supplier Device Package: SOD-323
footprint SOD323
pins: 1, 2

## PESD5V0U1UB,115
designator D?
TVS DIODE 5V SOD523; Manufacturer: Nexperia USA Inc.; Capacitance @ Frequency: 2pF @ 1MHz; Power Line Protection: No; Type: Zener; Unidirectional Channels: 1; Voltage - Breakdown (Min): 5.8V; Voltage - Reverse Standoff (Typ): 5V (Max); Part Number: PESD5V0U1UB,115; Applications: Automotive; ComponentLink1Description: Datasheet; ComponentLink1URL: https://assets.nexperia.com/documents/data-sheet/PESD5V0U1UA_UB_UL.pdf; ComponentLink2Description: DigiKey Link; ComponentLink2URL: http://digikey.com/product-detail/en/nexperia-usa-inc/PESD5V0U1UB115/1727-4156-1-ND/1993008; LastUpdated: 9/2/2020 1:28:24 AM; Lifecycle Status: Active; Minimum Order: 1; Mounting Type: Surface Mount; Operating Temperature: -55°C ~ 150°C (TA); Package / Case: SC-79, SOD-523; Packaging: TapeAndReel; PartId: 9772; Part Status: Active; Price: 0.08; Series: Automotive, AEC-Q101; Supplier 1: DigiKey; Supplier Part Number 1: 1727-4156-1-ND; Supplier Device Package: SOD-523
footprint SOD523F
pins: 1, 2

## PESD5V0V1BA,115
designator D?
TVS DIODE 5V 12.5V SOD323; Manufacturer: Nexperia USA Inc.; Bidirectional Channels: 1; Capacitance @ Frequency: 11pF @ 1MHz; Current - Peak Pulse (10/1000µs): 4.8A (8/20µs); Power Line Protection: No; Power - Peak Pulse: 45W; Type: Zener; Voltage - Breakdown (Min): 5.8V; Voltage - Reverse Standoff (Typ): 5V (Max); Part Number: PESD5V0V1BA,115; Applications: Automotive; ComponentLink1Description: Datasheet; ComponentLink1URL: https://assets.nexperia.com/documents/data-sheet/PESD5V0V1BA_BB_BL.pdf; ComponentLink2Description: DigiKey Link; ComponentLink2URL: http://digikey.com/product-detail/en/nexperia-usa-inc/PESD5V0V1BA115/1727-5807-1-ND/2697413; LastUpdated: 9/2/2020 1:28:29 AM; Lifecycle Status: Active; Minimum Order: 1; Mounting Type: Surface Mount; Operating Temperature: -55°C ~ 150°C (TA); Package / Case: SC-76, SOD-323; Packaging: TapeAndReel; PartId: 9963; Part Status: Active; Price: 0.07; Series: Automotive, AEC-Q101; Supplier 1: DigiKey; Supplier Part Number 1: 1727-5807-1-ND; Supplier Device Package: SOD-323; Voltage - Clamping (Max) @ Ipp: 12.5V
footprint SOD323
pins: 1, 2

## PESD5V0V1BB,115
designator D?
TVS DIODE 5V 12.5V SOD523; Manufacturer: Nexperia USA Inc.; Bidirectional Channels: 1; Capacitance @ Frequency: 11pF @ 1MHz; Current - Peak Pulse (10/1000µs): 4.8A (8/20µs); Power Line Protection: No; Power - Peak Pulse: 45W; Type: Zener; Voltage - Breakdown (Min): 5.8V; Voltage - Reverse Standoff (Typ): 5V (Max); Part Number: PESD5V0V1BB,115; Applications: Automotive; ComponentLink1Description: Datasheet; ComponentLink1URL: https://assets.nexperia.com/documents/data-sheet/PESD5V0V1BA_BB_BL.pdf; ComponentLink2Description: DigiKey Link; ComponentLink2URL: http://digikey.com/product-detail/en/nexperia-usa-inc/PESD5V0V1BB115/1727-5808-1-ND/2697421; LastUpdated: 9/2/2020 1:28:25 AM; Lifecycle Status: Active; Minimum Order: 1; Mounting Type: Surface Mount; Operating Temperature: -55°C ~ 150°C (TA); Package / Case: SC-79, SOD-523; Packaging: TapeAndReel; PartId: 9831; Part Status: Active; Price: 0.12; Series: Automotive, AEC-Q101; Supplier 1: DigiKey; Supplier Part Number 1: 1727-5808-1-ND; Supplier Device Package: SOD-523; Voltage - Clamping (Max) @ Ipp: 12.5V
footprint SOD523F
pins: 1, 2

## PESD5V0X1UAB,115
designator D?
TVS DIODE 5V 9V SOD523; Manufacturer: Nexperia USA Inc.; Capacitance @ Frequency: 1.55pF @ 1MHz; Current - Peak Pulse (10/1000µs): 2A (8/20µs); Power Line Protection: No; Type: Zener; Unidirectional Channels: 1; Voltage - Breakdown (Min): 5.8V; Voltage - Clamping (Max) @ Ipp: 9V (Typ); Voltage - Reverse Standoff (Typ): 5V (Max); Part Number: PESD5V0X1UAB,115; Applications: Automotive; ComponentLink1Description: Datasheet; ComponentLink1URL: https://assets.nexperia.com/documents/data-sheet/PESD5V0X1UAB.pdf; ComponentLink2Description: DigiKey Link; ComponentLink2URL: http://digikey.com/product-detail/en/nexperia-usa-inc/PESD5V0X1UAB115/1727-1324-1-ND/4386336; LastUpdated: 9/2/2020 1:28:24 AM; Lifecycle Status: Active; Minimum Order: 1; Mounting Type: Surface Mount; Operating Temperature: -55°C ~ 150°C (TA); Package / Case: SC-79, SOD-523; Packaging: TapeAndReel; PartId: 9785; Part Status: Active; Price: 0.10; Series: Automotive, AEC-Q101; Supplier 1: DigiKey; Supplier Part Number 1: 1727-1324-1-ND; Supplier Device Package: SOD-523
footprint SOD523F
pins: 1, 2

## PESD5V0X1UB,135
designator D?
TVS DIODE 5V 8V SOD523; Manufacturer: Nexperia USA Inc.; Capacitance @ Frequency: 0.95pF @ 1MHz; Current - Peak Pulse (10/1000µs): 1.5A (8/20µs); Power Line Protection: No; Type: Zener; Unidirectional Channels: 1; Voltage - Breakdown (Min): 5.8V; Voltage - Clamping (Max) @ Ipp: 8V (Typ); Voltage - Reverse Standoff (Typ): 5V (Max); Part Number: PESD5V0X1UB,135; Applications: Automotive; ComponentLink1Description: Datasheet; ComponentLink1URL: https://assets.nexperia.com/documents/data-sheet/PESD5V0X1UB.pdf; ComponentLink2Description: DigiKey Link; ComponentLink2URL: http://digikey.com/product-detail/en/nexperia-usa-inc/PESD5V0X1UB135/1727-5906-1-ND/2744560; LastUpdated: 9/2/2020 1:28:24 AM; Lifecycle Status: Active; Minimum Order: 1; Mounting Type: Surface Mount; Operating Temperature: -55°C ~ 150°C (TA); Package / Case: SC-79, SOD-523; Packaging: TapeAndReel; PartId: 9811; Part Status: Active; Price: 0.08; Series: Automotive, AEC-Q101; Supplier 1: DigiKey; Supplier Part Number 1: 1727-5906-1-ND; Supplier Device Package: SOD-523
footprint SOD523F
pins: 1, 2

## PESD5Z2.5,115
designator D?
TVS DIODE 2.5V 15V SOD523; Manufacturer: Nexperia USA Inc.; Capacitance @ Frequency: 229pF @ 1MHz; Current - Peak Pulse (10/1000µs): 20A (8/20µs); Power Line Protection: No; Power - Peak Pulse: 260W; Type: Zener; Unidirectional Channels: 1; Voltage - Breakdown (Min): 4V; Voltage - Reverse Standoff (Typ): 2.5V (Max); Part Number: PESD5Z2.5,115; Applications: Ethernet; ComponentLink1Description: Datasheet; ComponentLink1URL: https://assets.nexperia.com/documents/data-sheet/PESD5ZX_SER.pdf; ComponentLink2Description: DigiKey Link; ComponentLink2URL: http://digikey.com/product-detail/en/nexperia-usa-inc/PESD5Z2.5115/1727-5813-1-ND/2697433; LastUpdated: 9/2/2020 1:28:24 AM; Lifecycle Status: Active; Minimum Order: 1; Mounting Type: Surface Mount; Operating Temperature: -65°C ~ 150°C (TA); Package / Case: SC-79, SOD-523; Packaging: TapeAndReel; PartId: 9802; Part Status: Active; Price: 0.05; Series: -; Supplier 1: DigiKey; Supplier Part Number 1: 1727-5813-1-ND; Supplier Device Package: SOD-523; Voltage - Clamping (Max) @ Ipp: 15V
footprint SOD523F
pins: 1, 2

## PESD5Z3.3,115
designator D?
TVS DIODE 3.3V 18V SOD523; Manufacturer: Nexperia USA Inc.; Capacitance @ Frequency: 172pF @ 1MHz; Current - Peak Pulse (10/1000µs): 20A (8/20µs); Power Line Protection: No; Power - Peak Pulse: 260W; Type: Zener; Unidirectional Channels: 1; Voltage - Breakdown (Min): 5V; Voltage - Reverse Standoff (Typ): 3.3V (Max); Part Number: PESD5Z3.3,115; Applications: Ethernet; ComponentLink1Description: Datasheet; ComponentLink1URL: https://assets.nexperia.com/documents/data-sheet/PESD5ZX_SER.pdf; ComponentLink2Description: DigiKey Link; ComponentLink2URL: http://digikey.com/product-detail/en/nexperia-usa-inc/PESD5Z3.3115/1727-5814-1-ND/2697434; LastUpdated: 9/2/2020 1:28:24 AM; Lifecycle Status: Active; Minimum Order: 1; Mounting Type: Surface Mount; Operating Temperature: -65°C ~ 150°C (TA); Package / Case: SC-79, SOD-523; Packaging: TapeAndReel; PartId: 9750; Part Status: Active; Price: 0.05; Series: -; Supplier 1: DigiKey; Supplier Part Number 1: 1727-5814-1-ND; Supplier Device Package: SOD-523; Voltage - Clamping (Max) @ Ipp: 18V
footprint SOD523F
pins: 1, 2

## PESD5Z5.0,115
designator D?
TVS DIODE 5V 18V SOD523; Manufacturer: Nexperia USA Inc.; Capacitance @ Frequency: 89pF @ 1MHz; Current - Peak Pulse (10/1000µs): 10A (8/20µs); Power Line Protection: No; Power - Peak Pulse: 180W; Type: Zener; Unidirectional Channels: 1; Voltage - Breakdown (Min): 6.2V; Voltage - Reverse Standoff (Typ): 5V (Max); Part Number: PESD5Z5.0,115; Applications: Ethernet; ComponentLink1Description: Datasheet; ComponentLink1URL: https://assets.nexperia.com/documents/data-sheet/PESD5ZX_SER.pdf; ComponentLink2Description: DigiKey Link; ComponentLink2URL: http://digikey.com/product-detail/en/nexperia-usa-inc/PESD5Z5.0115/1727-5165-1-ND/2531754; LastUpdated: 9/2/2020 1:28:24 AM; Lifecycle Status: Active; Minimum Order: 1; Mounting Type: Surface Mount; Operating Temperature: -65°C ~ 150°C (TA); Package / Case: SC-79, SOD-523; Packaging: TapeAndReel; PartId: 9753; Part Status: Active; Price: 0.05; Series: -; Supplier 1: DigiKey; Supplier Part Number 1: 1727-5165-1-ND; Supplier Device Package: SOD-523; Voltage - Clamping (Max) @ Ipp: 18V
footprint SOD523F
pins: 1, 2

## PESD5Z6.0,115
designator D?
TVS DIODE 6V 18V SOD523; Manufacturer: Nexperia USA Inc.; Capacitance @ Frequency: 78pF @ 1MHz; Current - Peak Pulse (10/1000µs): 10A (8/20µs); Power Line Protection: No; Power - Peak Pulse: 180W; Type: Zener; Unidirectional Channels: 1; Voltage - Breakdown (Min): 6.8V; Voltage - Reverse Standoff (Typ): 6V (Max); Part Number: PESD5Z6.0,115; Applications: Ethernet; ComponentLink1Description: Datasheet; ComponentLink1URL: https://assets.nexperia.com/documents/data-sheet/PESD5ZX_SER.pdf; ComponentLink2Description: DigiKey Link; ComponentLink2URL: http://digikey.com/product-detail/en/nexperia-usa-inc/PESD5Z6.0115/1727-5815-1-ND/2697424; LastUpdated: 9/2/2020 1:28:24 AM; Lifecycle Status: Active; Minimum Order: 1; Mounting Type: Surface Mount; Operating Temperature: -65°C ~ 150°C (TA); Package / Case: SC-79, SOD-523; Packaging: TapeAndReel; PartId: 9779; Part Status: Active; Price: 0.05; Series: -; Supplier 1: DigiKey; Supplier Part Number 1: 1727-5815-1-ND; Supplier Device Package: SOD-523; Voltage - Clamping (Max) @ Ipp: 18V
footprint SOD523F
pins: 1, 2

## PESD5Z7.0,115
designator D?
TVS DIODE 7V 19V SOD523; Manufacturer: Nexperia USA Inc.; Capacitance @ Frequency: 69pF @ 1MHz; Current - Peak Pulse (10/1000µs): 10A (8/20µs); Power Line Protection: No; Power - Peak Pulse: 180W; Type: Zener; Unidirectional Channels: 1; Voltage - Breakdown (Min): 7.5V; Voltage - Reverse Standoff (Typ): 7V (Max); Part Number: PESD5Z7.0,115; Applications: Ethernet; ComponentLink1Description: Datasheet; ComponentLink1URL: https://assets.nexperia.com/documents/data-sheet/PESD5ZX_SER.pdf; ComponentLink2Description: DigiKey Link; ComponentLink2URL: http://digikey.com/product-detail/en/nexperia-usa-inc/PESD5Z7.0115/1727-5416-1-ND/2676902; LastUpdated: 9/2/2020 1:28:24 AM; Lifecycle Status: Active; Minimum Order: 1; Mounting Type: Surface Mount; Operating Temperature: -65°C ~ 150°C (TA); Package / Case: SC-79, SOD-523; Packaging: TapeAndReel; PartId: 9803; Part Status: Active; Price: 0.05; Series: -; Supplier 1: DigiKey; Supplier Part Number 1: 1727-5416-1-ND; Supplier Device Package: SOD-523; Voltage - Clamping (Max) @ Ipp: 19V
footprint SOD523F
pins: 1, 2

## PESD5Z12,115
designator D?
TVS DIODE 12V 35V SOD523; Manufacturer: Nexperia USA Inc.; Capacitance @ Frequency: 35pF @ 1MHz; Current - Peak Pulse (10/1000µs): 6A (8/20µs); Power Line Protection: No; Power - Peak Pulse: 200W; Type: Zener; Unidirectional Channels: 1; Voltage - Breakdown (Min): 14.1V; Voltage - Reverse Standoff (Typ): 12V (Max); Part Number: PESD5Z12,115; Applications: Ethernet; ComponentLink1Description: Datasheet; ComponentLink1URL: https://assets.nexperia.com/documents/data-sheet/PESD5ZX_SER.pdf; ComponentLink2Description: DigiKey Link; ComponentLink2URL: http://digikey.com/product-detail/en/nexperia-usa-inc/PESD5Z12115/1727-5812-1-ND/2697432; LastUpdated: 9/2/2020 1:28:24 AM; Lifecycle Status: Active; Minimum Order: 1; Mounting Type: Surface Mount; Operating Temperature: -65°C ~ 150°C (TA); Package / Case: SC-79, SOD-523; Packaging: TapeAndReel; PartId: 9778; Part Status: Active; Price: 0.05; Series: -; Supplier 1: DigiKey; Supplier Part Number 1: 1727-5812-1-ND; Supplier Device Package: SOD-523; Voltage - Clamping (Max) @ Ipp: 35V
footprint SOD523F
pins: 1, 2

## PESD12VL1BA,115
designator D?
TVS DIODE 12V 37V SOD323; Manufacturer: Nexperia USA Inc.; Bidirectional Channels: 1; Capacitance @ Frequency: 19pF @ 1MHz; Current - Peak Pulse (10/1000µs): 5A (8/20µs); Power Line Protection: No; Power - Peak Pulse: 200W; Type: Zener; Voltage - Breakdown (Min): 14.2V; Voltage - Reverse Standoff (Typ): 12V (Max); Part Number: PESD12VL1BA,115; Applications: General Purpose; ComponentLink1Description: Datasheet; ComponentLink1URL: https://assets.nexperia.com/documents/data-sheet/PESDXL1BA_SER.pdf; ComponentLink2Description: DigiKey Link; ComponentLink2URL: http://digikey.com/product-detail/en/nexperia-usa-inc/PESD12VL1BA115/1727-3808-1-ND/1530812; LastUpdated: 9/2/2020 1:28:29 AM; Lifecycle Status: Active; Minimum Order: 1; Mounting Type: Surface Mount; Operating Temperature: -65°C ~ 150°C (TA); Package / Case: SC-76, SOD-323; Packaging: TapeAndReel; PartId: 9969; Part Status: Active; Price: 0.11; Series: -; Supplier 1: DigiKey; Supplier Part Number 1: 1727-3808-1-ND; Supplier Device Package: SOD-323; Voltage - Clamping (Max) @ Ipp: 37V
footprint SOD323
pins: 1, 2